# EAGLE library part 6250XX21721_62501421721 (library WR-BHD)
WR-BHD 2.00 mm Male Characteristics Rated current: 2 A Working Voltage: 250 V UL approval: E323964 UL94-V0 Applications Industrial Production lines Details see: www.we-online.com/components/products/WTB_WR_BHD_BOX_HEADER_2_00MM_MALE Updated by Ella 2026-09-16 2026 (C) Würth Elektronik
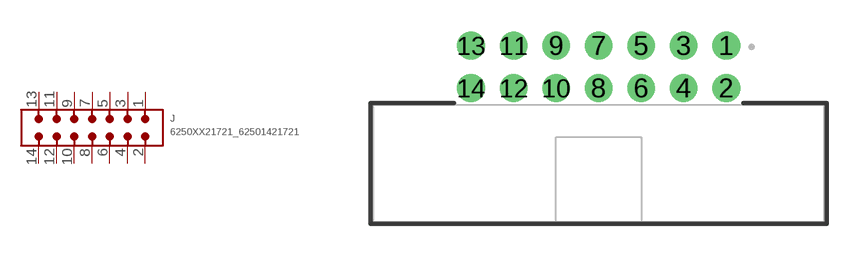
[diagram p127: symbol with the pads of 62501421721; footprint 62501421721]

Designator prefix J

## 6250XX21721_62501421721 (CATEGORY: Connectors; DATASHEET: https://www.we-online.com/redexpert/spec/62501421721?ae; GENDER: Male; LENGTH: 21.25 mm; MANUFACTURER: Würth Elektronik; MOUNT: THT; MPN: 62501421721; OPERATING_TEMPERATURE: -40 °C up to +105 °C; PACKAGING: Tray; PINS: 14; PITCH: 2mm; RATED_CURRENT: 2 A; SIZE: THT Angled; TYPE: Angled; VALUE: 62501421721)  [62501421721]
1  1  pas
2  2  pas
3  3  pas
4  4  pas
5  5  pas
6  6  pas
7  7  pas
8  8  pas
9  9  pas
10  10  pas
11  11  pas
12  12  pas
13  13  pas
14  14  pas

## Footprint 62501421721 (pad centres in mm)
WR-BHD Wire-to-Board Connectors, 2mm, Male, THT Angled, 14pins
drill 0.8: 1 6,5.55; 2 6,3.55; 3 4,5.55; 4 4,3.55; 5 2,5.55; 6 2,3.55; 7 0,5.55; 8 0,3.55; 9 -2,5.55; 10 -2,3.55; 11 -4,5.55; 12 -4,3.55; 13 -6,5.55; 14 -6,3.55